# Altium footprint library 2017_Ozone.PcbLib: 13 footprints
Each footprint in its own frame and in the unit in brackets; x right, y up, seen from the top. Pads: shape width x height; smd on the part's side, far side on the other; paste and mask are expansions set on the pad; w line width, h text height; cw(c..) or ccw(c..) is an arc to the next point about the centre after c.
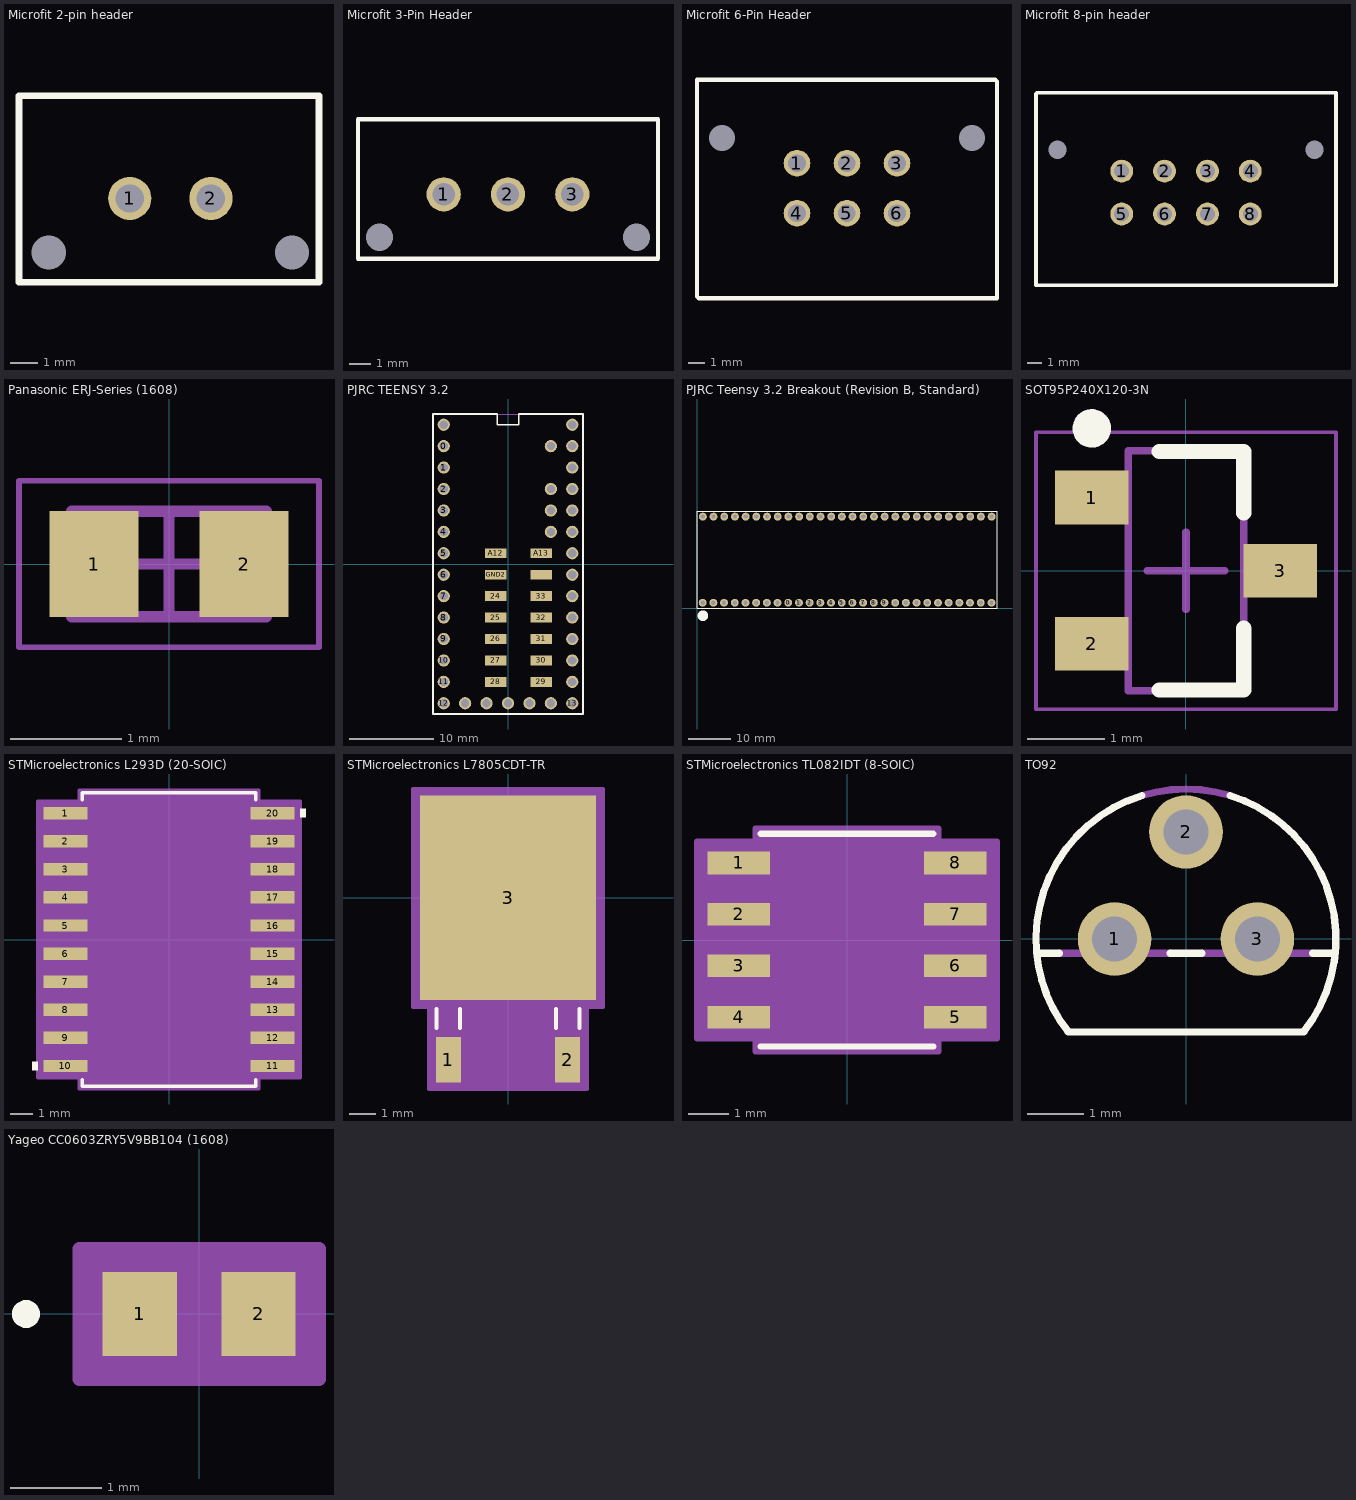
[diagram p0: the footprints below, top view; thin cyan lines are the x and y axes]

## Microfit 2-pin header [mm]
pads (4):
  round 1.6 hole 1.05: 1(-1238.4,-1251.8) 2(-1235.4,-1251.8)
  round 0 hole 1.27: 2(-1241.4,-1253.8) 2(-1232.4,-1253.8)
Top Overlay:
  lines w0.254: -1242.5,-1254.9 -1231.4,-1254.9 -1231.4,-1253.3 -1231.4,-1248 -1242.5,-1248 -1242.5,-1254.9
3D body "436500215.stp": height 9.95, standoff -3.13, extent -1241.725,-1254.3 -1232.075,-1248.695

## Microfit 3-Pin Header [mm]
pads (5):
  round 1.6 hole 1.05: 1(-1197.5,-1220) 2(-1194.5,-1220) 3(-1191.5,-1220)
  round 0 hole 1.27: 3(-1200.5,-1222) 3(-1188.5,-1222)
Top Overlay:
  lines w0.2: -1201.5,-1223 -1201.5,-1216.5 -1187.5,-1216.5 -1187.5,-1220 -1187.5,-1223 -1201.5,-1223
3D body "436500315.stp": height 9.95, standoff -3.13, extent -1200.825,-1222.47 -1188.175,-1216.865

## Microfit 6-Pin Header [mm]
pads (8):
  round 1.6 hole 1.05: 1(-1261,-1260) 2(-1258,-1260) 3(-1255,-1260) 4(-1261,-1263) 5(-1258,-1263) 6(-1255,-1263)
  round 0 hole 1.57: 9(-1265.5,-1258.5) 10(-1250.5,-1258.5)
Top Overlay:
  lines w0.254: -1267,-1268 -1267,-1255 -1249.1,-1255 -1249,-1255.1 -1249,-1267.6 -1249,-1268.1 -1249.9,-1268.1 -1266.1,-1268.1 -1266.9,-1268.1 -1267,-1268
3D body "444320601.stp": height 11.8, standoff -3.1, extent -1266,-1267.475 -1250,-1255.575

## Microfit 8-pin header [mm]
pads (10):
  round 1.6 hole 1.05: 1(-1262,-1255.5) 2(-1259,-1255.5) 3(-1256,-1255.5) 4(-1253,-1255.5) 5(-1262,-1258.5) 6(-1259,-1258.5) 7(-1256,-1258.5) 8(-1253,-1258.5)
  round 0 hole 1.27: 3(-1266.5,-1254) 3(-1248.5,-1254)
Top Overlay:
  lines w0.254: -1268,-1263.5 -1268,-1250.1 -1267.9,-1250 -1247,-1250 -1247,-1263.5 -1268,-1263.5
3D body "444320801.stp": height 2.6, standoff -12.3, extent -1267,-1262.85 -1248,-1250.95

## Panasonic ERJ-Series (1608) [mm] "Thick Film Chip Resistor"
height 0.55
pads (2):
  rect 0.8x0.95 smd: 1(-0.675,0) 2(0.675,0)
Mechanical 13:
  lines w0.1: -0.875,-0.475 -0.875,0.475 0.875,0.475 0.875,-0.475 -0.875,-0.475
Mechanical 15:
  lines w0.05: -1.35,-0.75 -1.35,0.75 1.35,0.75 1.35,-0.75 -1.35,-0.75
  lines w0.1: -0.475,0 0.475,0 ; 0,-0.475 0,0.475
3D body: height 0.55, standoff 0, extent -0.575,-0.475 0.575,0.475
3D body: height 0.55, standoff 0, extent -0.875,-0.475 -0.575,0.475
3D body: height 0.55, standoff 0, extent 0.575,-0.475 0.875,0.475

## PJRC TEENSY 3.2 [mil]
pads (51):
  round 57 hole 38: 0(-300,550) 1(-300,450) 2(-300,350) 3(-300,250) 3.3V(300,450) 3.3V1(-100,-650) 4(-300,150) 5(-300,50) 6(-300,-50) 7(-300,-150) 8(-300,-250) 9(-300,-350) 10(-300,-450) 11(-300,-550) 12(-300,-650) 13(300,-650) 14/A0(300,-550) 15/A1(300,-450) 16/A2(300,-350) 17/A3(300,-250) 18/A4(300,-150) 19/A5(300,-50) 20/A6(300,50) 21/A7(300,150) 22/A8(300,250) 23/A9(300,350) A10(200,250) A11(200,150) A14/DAC(200,-650) AGND(300,550) AREF(200,350) GND(-300,650) GND1(0,-650) PGM(100,-650) VBAT(-200,-650) VIN(300,650) VUSB(200,550)
  rect 100.39x45.67 smd: 3.3V2(154.13,-50) 24(-56.1,-150) 25(-56.1,-250) 26(-56.1,-350) 27(-56.1,-450) 28(-56.1,-550) 29(154.13,-550) 30(154.13,-450) 31(154.13,-350) 32(154.13,-250) 33(154.13,-150) A12(-56.1,50) A13(154.13,50) GND2(-56.1,-50)
Top Overlay:
  lines w8: -350,-700 -350,700 -50,700 -50,650 50,650 50,700 350,700 350,-700 -350,-700
Mechanical 16:
  lines w5: -350,-700 -350,700 350,700 350,-700 -350,-700
3D body "Teensy_3-2.stp": height 172.87, standoff -78.74, extent -351.86,-702.76 351.86,753.92

## PJRC Teensy 3.2 Breakout (Revision B, Standard) [mil]
pads (56):
  round 74 hole 40: 0(853.15,50) 1(953.15,50) 2(1053.15,50) 3(1153.15,50) 3V3(954.68,855.51) 4(1253.15,50) 5(1353.15,50) 6(1453.15,50) 7(1553.15,50) 8(1653.15,50) 9(1753.15,50) 10(1853.15,50) 11(1953.15,50) 12(2053.15,50) 13(2054.68,855.51) 14(1954.68,855.51) 15(1854.68,855.51) 16(1754.68,855.51) 17(1654.68,855.51) 18(1554.68,855.51) 19(1454.68,855.51) 20(1354.68,855.51) 21(1254.68,855.51) 22(1154.68,855.51) 23(1054.68,855.51) 24(2153.15,50) 25(2253.15,50) 26(2353.15,50) 27(2453.15,50) 28(2553.15,50) 29(2554.68,855.51) 30(2454.68,855.51) 31(2354.68,855.51) 32(2254.68,855.51) 33(2154.68,855.51) A10(253.15,50) A11(353.15,50) A12(453.15,50) A13(553.15,50) A14(653.15,50) AGND(854.68,855.51) AREF(554.68,855.51) GND(753.15,50) PRGM(654.68,855.51) RESET(254.69,855.51) SWCLK(2653.15,50) SWDIO(2753.15,50) USBD+(153.15,50) USBD-(53.15,50) USBID(54.69,855.51) VBAT(354.69,855.51) VDDA(154.69,855.51) VIN(754.68,855.51) VUSB(454.69,855.51) XTAL1(2754.68,855.51) XTAL2(2654.68,855.51)
Top Overlay:
  circle w78.74: c55.12,-70.87 r10.28
  lines w7.87: 0,0 2805.12,0 2805.12,905.51 0,905.51 0,0

## SOT95P240X120-3N [mm] "SOT23, 3-Leads, Body 2.92x2.40mm, Pitch 0.95mm, IPC Medium Density"
height 1.2
pads (3):
  rect 0.95x0.7 smd: 1(-1.225,0.95) 2(-1.225,-0.95) 3(1.225,0)
Top Overlay:
  circle w0.25: c-1.225,1.85 r0.125
  lines w0.2: -0.35,-1.55 0.75,-1.55 0.75,-0.75 ; -0.35,1.55 0.75,1.55 0.75,0.75
Mechanical 13:
  lines w0.1: -0.75,-1.56 -0.75,1.56 0.75,1.56 0.75,-1.56 -0.75,-1.56
Mechanical 15:
  lines w0.05: -1.95,-1.8 -1.95,1.8 1.95,1.8 1.95,-1.8 -1.95,-1.8
  lines w0.1: -0.5,0 0.5,0 ; 0,-0.5 0,0.5
3D body: height 1.2, standoff 0.1, extent -0.75,-1.56 0.75,1.56

## STMicroelectronics L293D (20-SOIC) [mil] "H-Bridge"
pads (20):
  rect 78x22 smd: 1(-184.5,225) 2(-184.5,175) 3(-184.5,125) 4(-184.5,75) 5(-184.5,25) 6(-184.5,-25) 7(-184.5,-75) 8(-184.5,-125) 9(-184.5,-175) 10(-184.5,-225) 11(184.5,-225) 12(184.5,-175) 13(184.5,-125) 14(184.5,-75) 15(184.5,-25) 16(184.5,25) 17(184.5,75) 18(184.5,125) 19(184.5,175) 20(184.5,225)
Top Overlay:
  region: -233.5,-217.5 -243.5,-217.5 -243.5,-232.5 -233.5,-232.5
  region: 233.5,232.5 243.5,232.5 243.5,217.5 233.5,217.5
  lines w6: -154.5,-249.1 -154.5,-261 154.5,-261 154.5,-249.1 ; -154.5,249.1 -154.5,261 154.5,261 154.5,249.1
Mechanical 13:
  lines w0: -12,256 ccw(c0,256) 12,256
Mechanical 15:
  region: -159.5,-246 -233.5,-246 -233.5,246 -159.5,246 -159.5,266 159.5,266 159.5,246 233.5,246 233.5,-246 159.5,-246 159.5,-266 -159.5,-266
  lines w6: -233.5,-246 -233.5,246 -159.5,246 -159.5,266 159.5,266 159.5,246 233.5,246 233.5,-246 159.5,-246 159.5,-266 -159.5,-266 -159.5,-246 -233.5,-246
3D body "SO-20.stp": height 104.1, standoff 0, extent -209.5,-256 209.5,256

## STMicroelectronics L7805CDT-TR [mil] "Linear Voltage Regulator IC Positive Fixed Output 5V 1.5A D-Pak"
pads (3):
  rect 37x67 smd: 1(-88.58,-240.5) 2(88.58,-240.5)
  rect 262x304 smd: 3(0,0)
Top Overlay:
  lines w6: -106.08,-193 -106.08,-165.1 ; -71.08,-193 -71.08,-165.1 ; 71.08,-193 71.08,-165.1 ; 106.08,-193 106.08,-165.1
Mechanical 13:
  text "*" at -88.58,-128 h50
Mechanical 15:
  region: -117.08,-162 -141,-162 -141,162 141,162 141,-162 117.08,-162 117.08,-284 -117.08,-284
  lines w6: -141,-162 -117.08,-162 -117.08,-284 117.08,-284 117.08,-162 141,-162 141,162 -141,162 -141,-162
3D body "DPAK.stp": height 95.1, standoff -2, extent -130,-242.55 130,102.55
3D body: height 10, standoff 0, extent 0,0 10,10

## STMicroelectronics TL082IDT (8-SOIC) [mil] "Op Amp"
pads (8):
  rect 61x22 smd: 1(-105.5,75) 2(-105.5,25) 3(-105.5,-25) 4(-105.5,-75) 5(105.5,-75) 6(105.5,-25) 7(105.5,25) 8(105.5,75)
Top Overlay:
  lines w6: -84,-103.5 84,-103.5 ; -84,103.5 84,103.5
Mechanical 13:
  lines w0: -12,98.5 ccw(c0,98.5) 12,98.5
Mechanical 15:
  region: -89,-96 -146,-96 -146,96 -89,96 -89,108.5 89,108.5 89,96 146,96 146,-96 89,-96 89,-108.5 -89,-108.5
  lines w6: -146,-96 -89,-96 -89,-108.5 89,-108.5 89,-96 146,-96 146,96 89,96 89,108.5 -89,108.5 -89,96 -146,96 -146,-96
3D body "SO-8.stp": height 69.1, standoff 0, extent -122,-98.5 122,98.5

## TO92 [mm]
pads (3):
  round 1.308 hole 0.8 mask-25.4: 1(-1.27,0) 2(0,1.905) 3(1.27,0)
Top Overlay:
  lines w0.127: -2.655,-0.254 -2.254,-0.254 ; -2.102,-1.642 cw(c0,0) -2.657,-0.232 cw(c0,0) -0.78,2.551 ; -2.094,-1.651 2.094,-1.651 ; -0.286,-0.254 0.286,-0.254 ; 0.78,2.55 cw(c0,0) 2.102,-1.642 ; 2.254,-0.254 2.655,-0.254
Top Solder:
  region: -1.27,0.761 -1.467,0.735 -1.65,0.659 -1.808,0.538 -1.929,0.38 -2.005,0.197 -2.031,0 -2.005,-0.197 -1.929,-0.38 -1.808,-0.538 -1.65,-0.659 -1.467,-0.735 -1.27,-0.761 -1.073,-0.735 -0.89,-0.659 -0.732,-0.538 -0.611,-0.38 -0.535,-0.197 -0.509,0 -0.535,0.197 -0.611,0.38 -0.732,0.538 -0.89,0.659 -1.073,0.735
  region: 0,2.666 -0.197,2.64 -0.38,2.564 -0.538,2.443 -0.659,2.285 -0.735,2.102 -0.761,1.905 -0.735,1.708 -0.659,1.525 -0.538,1.367 -0.38,1.246 -0.197,1.17 0,1.144 0.197,1.17 0.38,1.246 0.538,1.367 0.659,1.525 0.735,1.708 0.761,1.905 0.735,2.102 0.659,2.285 0.538,2.443 0.38,2.564 0.197,2.64
  region: 1.27,0.761 1.073,0.735 0.89,0.659 0.732,0.538 0.611,0.38 0.535,0.197 0.509,0 0.535,-0.197 0.611,-0.38 0.732,-0.538 0.89,-0.659 1.073,-0.735 1.27,-0.761 1.467,-0.735 1.65,-0.659 1.808,-0.538 1.929,-0.38 2.005,-0.197 2.031,0 2.005,0.197 1.929,0.38 1.808,0.538 1.65,0.659 1.467,0.735
Bottom Solder:
  region: -1.27,0.761 -1.467,0.735 -1.65,0.659 -1.808,0.538 -1.929,0.38 -2.005,0.197 -2.031,0 -2.005,-0.197 -1.929,-0.38 -1.808,-0.538 -1.65,-0.659 -1.467,-0.735 -1.27,-0.761 -1.073,-0.735 -0.89,-0.659 -0.732,-0.538 -0.611,-0.38 -0.535,-0.197 -0.509,0 -0.535,0.197 -0.611,0.38 -0.732,0.538 -0.89,0.659 -1.073,0.735
  region: 0,2.666 -0.197,2.64 -0.38,2.564 -0.538,2.443 -0.659,2.285 -0.735,2.102 -0.761,1.905 -0.735,1.708 -0.659,1.525 -0.538,1.367 -0.38,1.246 -0.197,1.17 0,1.144 0.197,1.17 0.38,1.246 0.538,1.367 0.659,1.525 0.735,1.708 0.761,1.905 0.735,2.102 0.659,2.285 0.538,2.443 0.38,2.564 0.197,2.64
  region: 1.27,0.761 1.073,0.735 0.89,0.659 0.732,0.538 0.611,0.38 0.535,0.197 0.509,0 0.535,-0.197 0.611,-0.38 0.732,-0.538 0.89,-0.659 1.073,-0.735 1.27,-0.761 1.467,-0.735 1.65,-0.659 1.808,-0.538 1.929,-0.38 2.005,-0.197 2.031,0 2.005,0.197 1.929,0.38 1.808,0.538 1.65,0.659 1.467,0.735
Mechanical 1:
  lines w0.127: -2.254,-0.254 -0.286,-0.254 ; -0.78,2.551 cw(c0,0) 0.78,2.551 ; 0.286,-0.254 2.254,-0.254

## Yageo CC0603ZRY5V9BB104 (1608) [mil] "CAP CER 0.1UF 50V Y5V 0603"
pads (2):
  rect 32x36 smd: 1(-25.5,0) 2(25.5,0)
Top Overlay:
  circle w6: c-74.5,0 r3
Mechanical 13:
  circle w0: c-20.5,0 r3
Mechanical 15:
  region: 51.5,-28 -51.5,-28 -51.5,28 51.5,28
  lines w6: -51.5,-28 51.5,-28 51.5,28 -51.5,28 -51.5,-28
3D body "YAG_CC0603.stp": height 36, standoff 0, extent -33.5,-18 33.5,18